# EAGLE library part LT3976 (library custom-devices)
40 V, 5 A, 2 MHz Step-Down Switching Regulator with 3.3 uA Quiescent Current
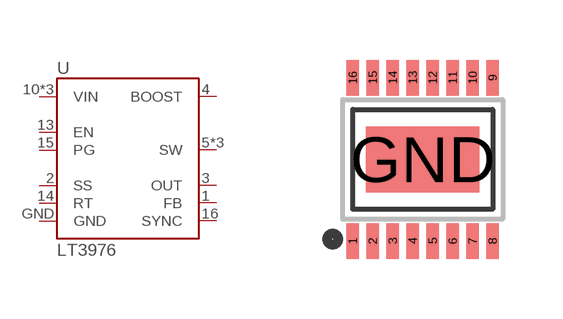
[diagram p29: symbol with the pads of MSOP16; footprint MSOP16]

Designator prefix U

## LT3976_MSOP16 (DIGI-KEY: LT3976EMSE#PBF-ND)  [MSOP16]
1  FB
2  SS
3  OUT
4  BOOST
5  SW
6  SW
7  SW
10  VIN
11  VIN
12  VIN
13  EN
14  RT
15  PG
16  SYNC
GND  GND

## Footprint MSOP16 (pad centres in mm)
smd 0.305 x 0.889: 1 -1.75,-2.045; 2 -1.25,-2.045; 3 -0.75,-2.045; 4 -0.25,-2.045; 5 0.25,-2.045; 6 0.75,-2.045; 7 1.25,-2.045; 8 1.75,-2.045; 9 1.75,2.045; 10 1.25,2.045; 11 0.75,2.045; 12 0.25,2.045; 13 -0.25,2.045; 14 -0.75,2.045; 15 -1.25,2.045; 16 -1.75,2.045
smd 2.845 x 1.651: GND 0,0